# EAGLE library part MSP430FR5989IRGCR (library msp430fr5989 (1))
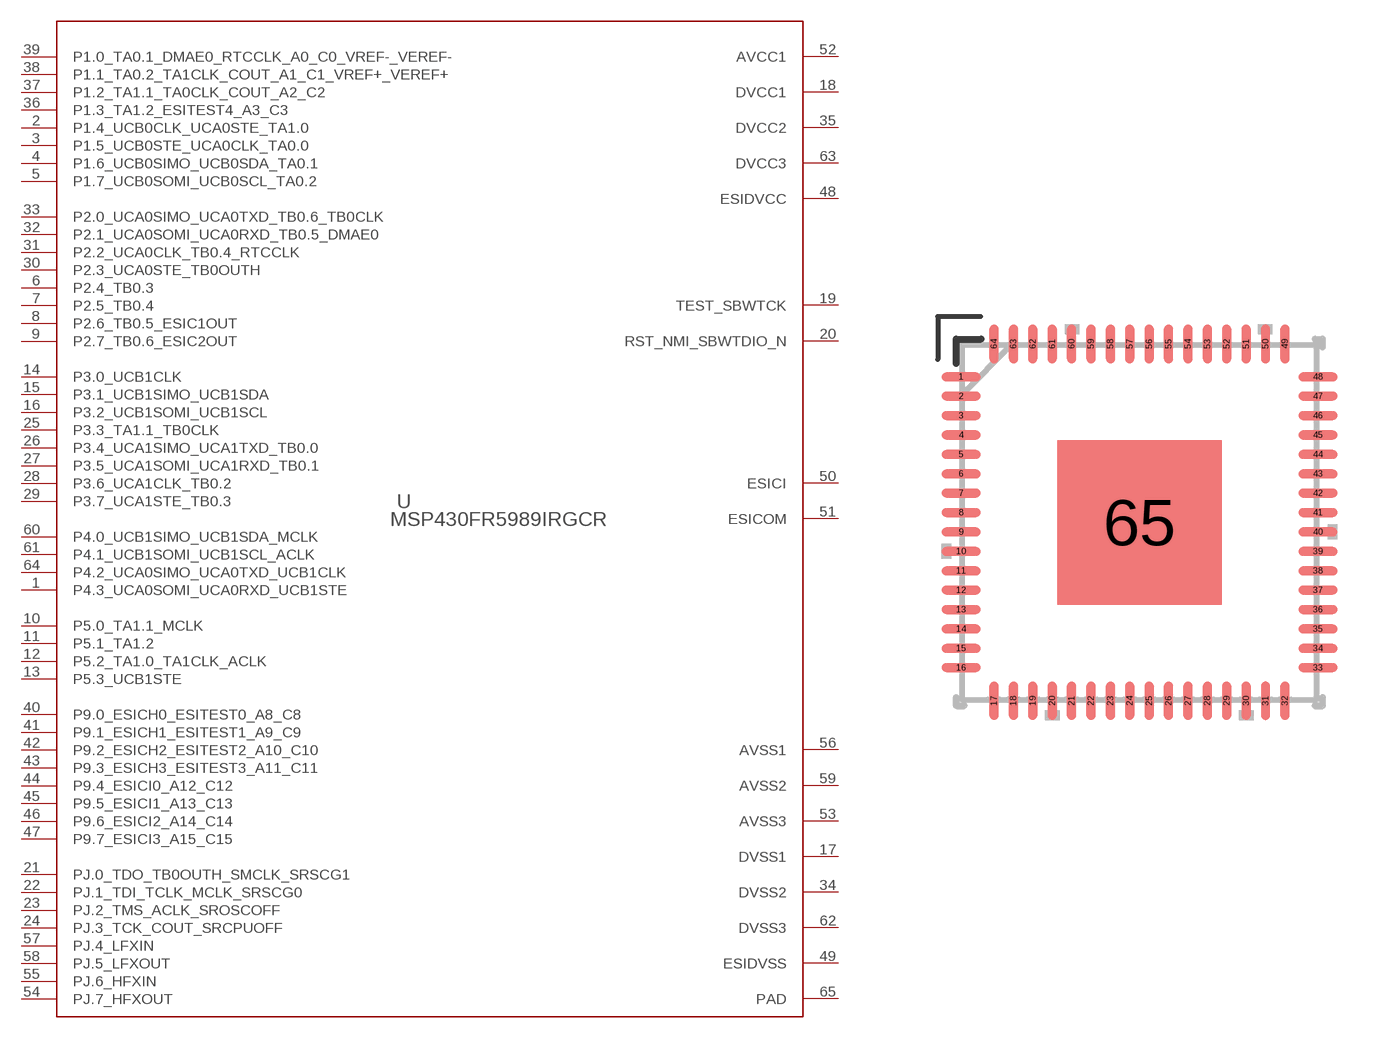
[diagram p0: symbol with the pads of RGC0064B; footprint RGC0064B]

Designator prefix U

## MSP430FR5989IRGCR (ALTERNATEPARTNUMBER: MSP430FR5989IRGCT; COMPTYPE: IC; MANUFACTURER: Texas Instruments; MOUNTTYPE: SMT; PACKAGEREFERENCE: RGC0064B; PARTNUMBER: MSP430FR5989IRGCR; PIN_COUNT: 65; REFDES: RefDes; ROHS: Y; TYPE: TYPE; VALUE: Value)  [RGC0064B]
1  P4.3_UCA0SOMI_UCA0RXD_UCB1STE
2  P1.4_UCB0CLK_UCA0STE_TA1.0
3  P1.5_UCB0STE_UCA0CLK_TA0.0
4  P1.6_UCB0SIMO_UCB0SDA_TA0.1
5  P1.7_UCB0SOMI_UCB0SCL_TA0.2
6  P2.4_TB0.3
7  P2.5_TB0.4
8  P2.6_TB0.5_ESIC1OUT
9  P2.7_TB0.6_ESIC2OUT
10  P5.0_TA1.1_MCLK
11  P5.1_TA1.2
12  P5.2_TA1.0_TA1CLK_ACLK
13  P5.3_UCB1STE
14  P3.0_UCB1CLK
15  P3.1_UCB1SIMO_UCB1SDA
16  P3.2_UCB1SOMI_UCB1SCL
17  DVSS1  pwr
18  DVCC1  pwr
19  TEST_SBWTCK  in
20  RST_NMI_SBWTDIO_N
21  PJ.0_TDO_TB0OUTH_SMCLK_SRSCG1
22  PJ.1_TDI_TCLK_MCLK_SRSCG0
23  PJ.2_TMS_ACLK_SROSCOFF
24  PJ.3_TCK_COUT_SRCPUOFF
25  P3.3_TA1.1_TB0CLK
26  P3.4_UCA1SIMO_UCA1TXD_TB0.0
27  P3.5_UCA1SOMI_UCA1RXD_TB0.1
28  P3.6_UCA1CLK_TB0.2
29  P3.7_UCA1STE_TB0.3
30  P2.3_UCA0STE_TB0OUTH
31  P2.2_UCA0CLK_TB0.4_RTCCLK
32  P2.1_UCA0SOMI_UCA0RXD_TB0.5_DMAE0
33  P2.0_UCA0SIMO_UCA0TXD_TB0.6_TB0CLK
34  DVSS2  pwr
35  DVCC2  pwr
36  P1.3_TA1.2_ESITEST4_A3_C3
37  P1.2_TA1.1_TA0CLK_COUT_A2_C2
38  P1.1_TA0.2_TA1CLK_COUT_A1_C1_VREF+_VEREF+
39  P1.0_TA0.1_DMAE0_RTCCLK_A0_C0_VREF-_VEREF-
40  P9.0_ESICH0_ESITEST0_A8_C8
41  P9.1_ESICH1_ESITEST1_A9_C9
42  P9.2_ESICH2_ESITEST2_A10_C10
43  P9.3_ESICH3_ESITEST3_A11_C11
44  P9.4_ESICI0_A12_C12
45  P9.5_ESICI1_A13_C13
46  P9.6_ESICI2_A14_C14
47  P9.7_ESICI3_A15_C15
48  ESIDVCC  pwr
49  ESIDVSS  pwr
50  ESICI  in
51  ESICOM  pas
52  AVCC1  pwr
53  AVSS3  pwr
54  PJ.7_HFXOUT
55  PJ.6_HFXIN
56  AVSS1  pwr
57  PJ.4_LFXIN
58  PJ.5_LFXOUT
59  AVSS2  pwr
60  P4.0_UCB1SIMO_UCB1SDA_MCLK
61  P4.1_UCB1SOMI_UCB1SCL_ACLK
62  DVSS3  pwr
63  DVCC3  pwr
64  P4.2_UCA0SIMO_UCA0TXD_UCB1CLK
65  PAD  pwr

## Footprint RGC0064B (pad centres in mm)
smd 1 x 0.23: 1 -4.6,3.75; 2 -4.6,3.25; 3 -4.6,2.75; 4 -4.6,2.25; 5 -4.6,1.75; 6 -4.6,1.25; 7 -4.6,0.75; 8 -4.6,0.25; 9 -4.6,-0.25; 10 -4.6,-0.75; 11 -4.6,-1.25; 12 -4.6,-1.75; 13 -4.6,-2.25; 14 -4.6,-2.75; 15 -4.6,-3.25; 16 -4.6,-3.75; 33 4.6,-3.75; 34 4.6,-3.25; 35 4.6,-2.75; 36 4.6,-2.25; 37 4.6,-1.75; 38 4.6,-1.25; 39 4.6,-0.75; 40 4.6,-0.25; 41 4.6,0.25; 42 4.6,0.75; 43 4.6,1.25; 44 4.6,1.75; 45 4.6,2.25; 46 4.6,2.75; 47 4.6,3.25; 48 4.6,3.75
smd 0.23 x 1: 17 -3.751,-4.6; 18 -3.251,-4.6; 19 -2.751,-4.6; 20 -2.251,-4.6; 21 -1.75,-4.6; 22 -1.25,-4.6; 23 -0.75,-4.6; 24 -0.25,-4.6; 25 0.25,-4.6; 26 0.75,-4.6; 27 1.25,-4.6; 28 1.75,-4.6; 29 2.251,-4.6; 30 2.751,-4.6; 31 3.251,-4.6; 32 3.751,-4.6; 49 3.751,4.6; 50 3.251,4.6; 51 2.751,4.6; 52 2.251,4.6; 53 1.75,4.6; 54 1.25,4.6; 55 0.75,4.6; 56 0.25,4.6; 57 -0.25,4.6; 58 -0.75,4.6; 59 -1.25,4.6; 60 -1.75,4.6; 61 -2.251,4.6; 62 -2.751,4.6; 63 -3.251,4.6; 64 -3.751,4.6
smd 4.242 x 4.242: 65 0,0